# EAGLE library part TPS6120*-? (library IC_Power-Management)
Low Input Voltage Synchronous Boost Converter with 1.3-A Switches Datasheet <https://www.ti.com/lit/ds/symlink/tps61200.pdf?ts=1615459043427&ref_url=https%253A%252F%252Fwww.ti.com%252Fproduct%252FTPS61200%253Fqgpn%253Dtps61200> Note:Pad 11 needs to add thermal vias while designing a board for more details, refer landpattern section in datasheet.
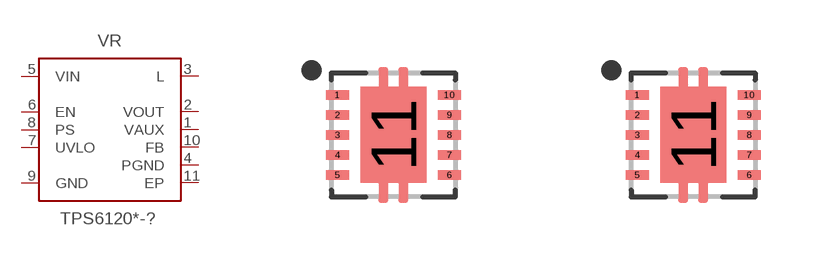
[diagram p20: symbol with the pads of SON50P300X300X100-11T165X240; footprints SON50P300X300X100-11T165X240, SON50P300X300X80-11T165X240]

Designator prefix VR

## TPS61200DRCR-VSON (CATEGORY: IC_Power-Management; DESCRIPTION: TPS6120x Low Input Voltage Synchronous Boost Converter With 1.3-A Switches; MANUFACTURER: TEXAS INSTRUMENTS; MPN: TPS61200DRCR; OPERATING_TEMP: –40°C to 150 °C; PART_STATUS: Active; ROHS_COMPLIANT: COMPLIANT; SERIES: TPS61200; SUB-CATEGORY: Voltage Regulator; TYPE: DC-DC Switching; VALUE: TPS61200DRCR), TPS61200DRCRG4-VSON (CATEGORY: IC_Power-Management; DESCRIPTION: TPS6120x Low Input Voltage Synchronous Boost Converter With 1.3-A Switches; MANUFACTURER: TEXAS INSTRUMENTS; MPN: TPS61200DRCRG4; OPERATING_TEMP: –40°C to 150 °C; PART_STATUS: Active; ROHS_COMPLIANT: COMPLIANT; SERIES: TPS61200; SUB-CATEGORY: Voltage Regulator; TYPE: DC-DC Switching; VALUE: TPS61200DRCRG4), TPS61200DRCT-VSON (CATEGORY: IC_Power-Management; DESCRIPTION: TPS6120x Low Input Voltage Synchronous Boost Converter With 1.3-A Switches; MANUFACTURER: TEXAS INSTRUMENTS; MPN: TPS61200DRCT; OPERATING_TEMP: –40°C to 150 °C; PART_STATUS: Active; ROHS_COMPLIANT: COMPLIANT; SERIES: TPS61200; SUB-CATEGORY: Voltage Regulator; TYPE: DC-DC Switching; VALUE: TPS61200DRCT), TPS61201DRCR-VSON (CATEGORY: IC_Power-Management; DESCRIPTION: TPS6120x Low Input Voltage Synchronous Boost Converter With 1.3-A Switches; MANUFACTURER: TEXAS INSTRUMENTS; MPN: TPS61201DRCR; OPERATING_TEMP: –40°C to 150 °C; PART_STATUS: Active; ROHS_COMPLIANT: COMPLIANT; SERIES: TPS61201; SUB-CATEGORY: Voltage Regulator; TYPE: DC-DC Switching; VALUE: TPS61201DRCR), TPS61201DRCT-VSON (CATEGORY: IC_Power-Management; DESCRIPTION: TPS6120x Low Input Voltage Synchronous Boost Converter With 1.3-A Switches; MANUFACTURER: TEXAS INSTRUMENTS; MPN: TPS61201DRCT; OPERATING_TEMP: –40°C to 150 °C; PART_STATUS: Active; ROHS_COMPLIANT: COMPLIANT; SERIES: TPS61201; SUB-CATEGORY: Voltage Regulator; TYPE: DC-DC Switching; VALUE: TPS61201DRCT), TPS61202DRCR-VSON (CATEGORY: IC_Power-Management; DESCRIPTION: TPS6120x Low Input Voltage Synchronous Boost Converter With 1.3-A Switches; MANUFACTURER: TEXAS INSTRUMENTS; MPN: TPS61202DRCR; OPERATING_TEMP: –40°C to 150 °C; PART_STATUS: Active; ROHS_COMPLIANT: COMPLIANT; SERIES: TPS61202; SUB-CATEGORY: Voltage Regulator; TYPE: DC-DC Switching; VALUE: TPS61202DRCR), TPS61202DRCT-VSON (CATEGORY: IC_Power-Management; DESCRIPTION: TPS6120x Low Input Voltage Synchronous Boost Converter With 1.3-A Switches; MANUFACTURER: TEXAS INSTRUMENTS; MPN: TPS61202DRCT; OPERATING_TEMP: –40°C to 150 °C; PART_STATUS: Active; ROHS_COMPLIANT: COMPLIANT; SERIES: TPS61202; SUB-CATEGORY: Voltage Regulator; TYPE: DC-DC Switching; VALUE: TPS61202DRCT)  [SON50P300X300X100-11T165X240]
1  VAUX
2  VOUT  out
3  L  in
4  PGND  pwr
5  VIN  in
6  EN  in
7  UVLO  in
8  PS  in
9  GND  pwr
10  FB  in
11  EP  pwr

## TPS61202DSCR-WSON (CATEGORY: Power Management IC; DESCRIPTION: TPS6120x Low Input Voltage Synchronous Boost Converter With 1.3-A Switches; MANUFACTURER: TEXAS INSTRUMENTS; MPN: TPS61202DSCR; OPERATING_TEMP: –40°C to 150 °C; PART_STATUS: Active; ROHS_COMPLIANT: COMPLIANT; SERIES: TPS61202; SUB-CATEGORY: Voltage Regulator; TYPE: DC-DC Switching; VALUE: TPS61202DSCR), TPS61202DSCT-WSON (CATEGORY: Power Management IC; DESCRIPTION: TPS6120x Low Input Voltage Synchronous Boost Converter With 1.3-A Switches; MANUFACTURER: TEXAS INSTRUMENTS; MPN: TPS61202DSCT; OPERATING_TEMP: –40°C to 150 °C; PART_STATUS: Active; ROHS_COMPLIANT: COMPLIANT; SERIES: TPS61202; SUB-CATEGORY: Voltage Regulator; TYPE: DC-DC Switching; VALUE: TPS61202DSCT), TPS61202DSCTG4-WSON (CATEGORY: Power Management IC; DESCRIPTION: TPS6120x Low Input Voltage Synchronous Boost Converter With 1.3-A Switches; MANUFACTURER: TEXAS INSTRUMENTS; MPN: TPS61202DSCTG4; OPERATING_TEMP: –40°C to 150 °C; PART_STATUS: Active; ROHS_COMPLIANT: COMPLIANT; SERIES: TPS61202; SUB-CATEGORY: Voltage Regulator; TYPE: DC-DC Switching; VALUE: TPS61202DSCTG4)  [SON50P300X300X80-11T165X240]
Pads as for SON50P300X300X100-11T165X240

## Footprint SON50P300X300X100-11T165X240 (pad centres in mm)
10-SON (DFN), 0.50 mm pitch, 3.00 X 3.00 X 1.00 mm body, 2.40 X 1.65 mm thermal pad 10-pin SON (DFN) package with 0.50mm pitch, with body size 3.00 X 3.00 X 1.00 mm and thermal pad size 2.40 X 1.65 mm
smd 0.6 x 0.24: 1 -1.4,1; 2 -1.4,0.5; 3 -1.4,0; 4 -1.4,-0.5; 5 -1.4,-1; 6 1.4,-1; 7 1.4,-0.5; 8 1.4,0; 9 1.4,0.5; 10 1.4,1
smd 1.65 x 2.4: 11 0,0

## Footprint SON50P300X300X80-11T165X240 (pad centres in mm)
10-SON (DFN), 0.50 mm pitch, 3.00 X 3.00 X 1.00 mm body, 2.40 X 1.65 mm thermal pad 10-pin SON (DFN) package with 0.50mm pitch, with body size 3.00 X 3.00 X 1.00 mm and thermal pad size 2.40 X 1.65 mm
smd 0.6 x 0.24: 1 -1.4,1; 2 -1.4,0.5; 3 -1.4,0; 4 -1.4,-0.5; 5 -1.4,-1; 6 1.4,-1; 7 1.4,-0.5; 8 1.4,0; 9 1.4,0.5; 10 1.4,1
smd 1.65 x 2.4: 11 0,0